# Altium footprint library PcbLib2.PcbLib: 3 footprints
Each footprint in its own frame and in the unit in brackets; x right, y up, seen from the top. Pads: shape width x height; smd on the part's side, far side on the other; paste and mask are expansions set on the pad; w line width, h text height; cw(c..) or ccw(c..) is an arc to the next point about the centre after c.
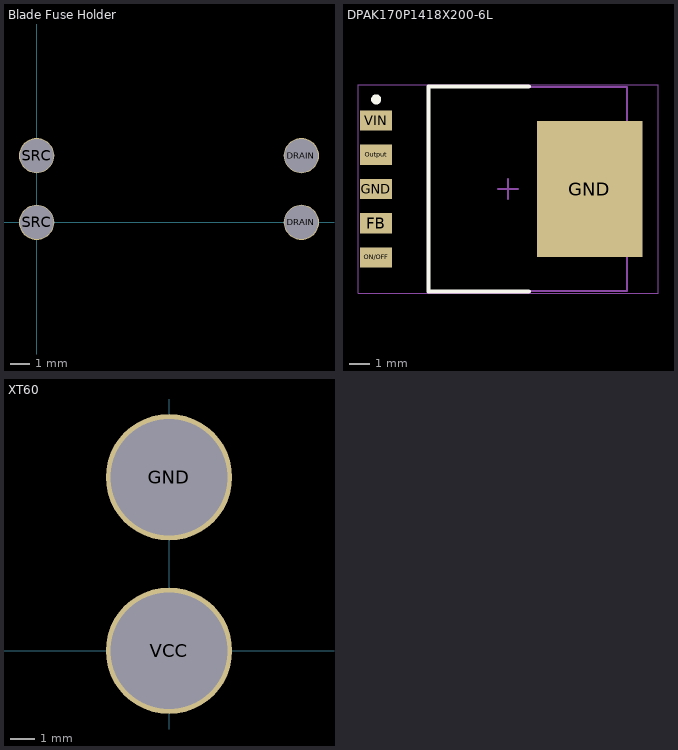
[diagram p0: the footprints below, top view; thin cyan lines are the x and y axes]

## Blade Fuse Holder [mm] "Automotive blade fuse holder"
pads (4):
  round 1.8 hole 1.7: DRAIN(13.5,0) DRAIN(13.5,3.4) SRC(0,0) SRC(0,3.4)

## DPAK170P1418X200-6L [mm] "D2-PAK, 6-Pads, Body 8.02x8.44mm (max), IPC High Density"
height 2
pads (6):
  rect 1.6x1 smd: FB(1212,1292.1) GND(1212,1293.8) ON/OFF(1212,1290.4) Output(1212,1295.5) VIN(1212,1297.2)
  rect 5.24x6.75 smd: GND(1222.6,1293.8)
Top Overlay:
  circle w0.25: c1212,1298.25 r0.125
  lines w0.2: 1219.58,1288.7 1214.6,1288.7 1214.6,1298.9 1219.58,1298.9
Mechanical 13:
  lines w0.1: 1214.6,1288.725 1224.45,1288.725 1224.45,1298.875 1214.6,1298.875 1214.6,1288.725
Mechanical 15:
  lines w0.05: 1211.1,1288.625 1226,1288.625 1226,1298.975 1211.1,1298.975 1211.1,1288.625
  lines w0.1: 1218.05,1293.8 1219.05,1293.8 ; 1218.55,1293.3 1218.55,1294.3
3D body: height 2, standoff 0, extent 1214.6,1288.725 1224.45,1298.875

## XT60 [mm] "XT60 Connector"
pads (2):
  round 5.1 hole 4.7: GND(0,7) VCC(0,0)